# Altium footprint library HGH.PcbLib: 336 footprints (part 12 of 21)
Each footprint in its own frame and in the unit in brackets; x right, y up, seen from the top. Pads: shape width x height; smd on the part's side, far side on the other; paste and mask are expansions set on the pad; w line width, h text height; cw(c..) or ccw(c..) is an arc to the next point about the centre after c.
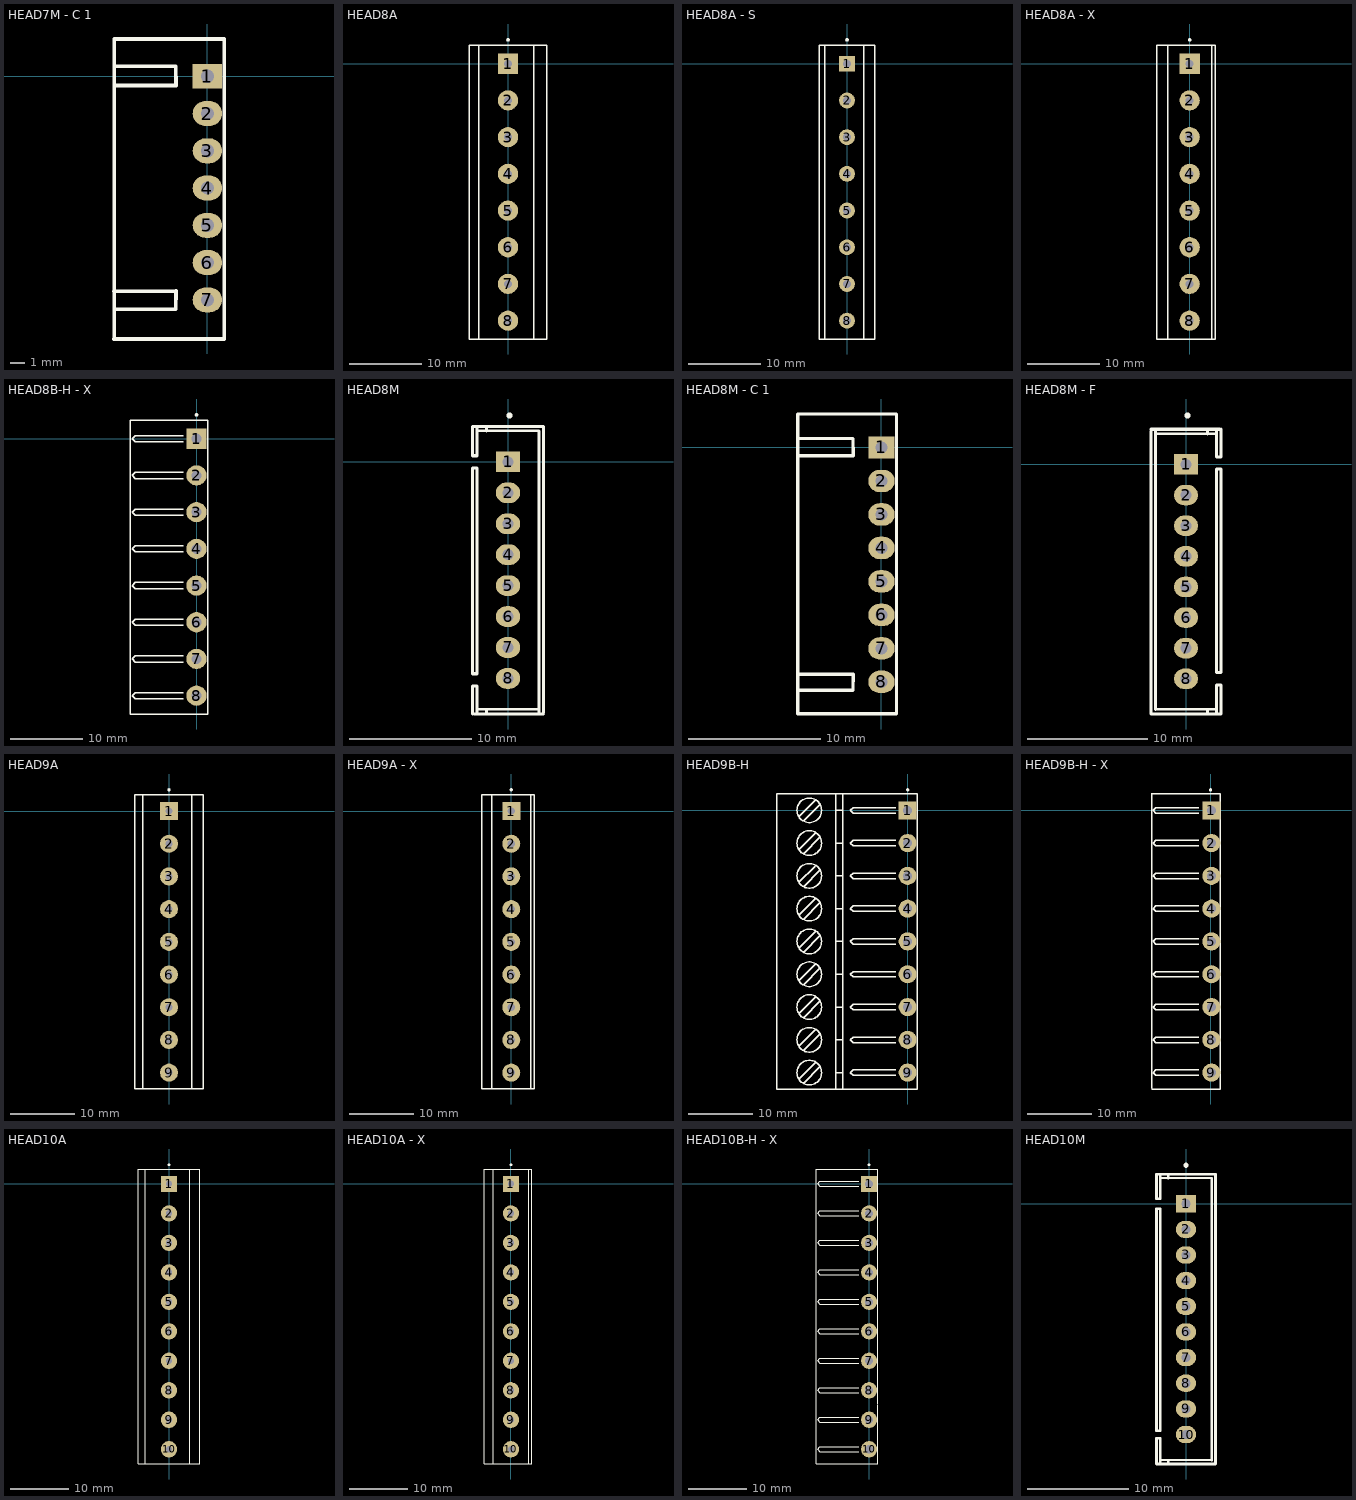
[diagram p11: the footprints below, top view; thin cyan lines are the x and y axes]

## HEAD7M - C 1 [mm]
pads (7):
  rect 2x1.7 hole 0.9: 1(0,0)
  oval 2x1.7 hole 0.9: 2(0,-2.54) 3(0,-5.08) 4(0,-7.62) 5(0,-10.16) 6(0,-12.7) 7(0,-15.24)
Top Overlay:
  lines w0.254: -6.375,-17.907 1.143,-17.907 1.143,2.54 -6.35,2.54 -6.35,-17.78 ; -6.375,-14.656 -2.134,-14.63 -2.159,-15.875 -6.35,-15.875 ; -6.35,-0.635 -2.134,-0.635 -2.159,0.686 -6.35,0.686

## HEAD8A [mm]
pads (8):
  rect 2.8x2.8 hole 1.1: 1(0,0)
  round 2.8 hole 1.1: 2(0,-5.08) 3(0,-10.16) 4(0,-15.24) 5(0,-20.32) 6(0,-25.4) 7(0,-30.48) 8(0,-35.56)
Top Overlay:
  circle w0.25: c0,3.3 r0.125
  lines w0.2: -4.064,-38.1 -4.064,-27.94 -4.064,-17.78 -4.064,-7.62 -4.064,2.54 ; 3.556,-38.1 3.556,-27.94 3.556,-17.78 3.556,-7.62 3.556,2.54 ; -5.334,-38.1 -5.334,-27.94 -5.334,-17.78 -5.334,-7.62 -5.334,2.54 5.334,2.54 5.334,-7.62 5.334,-17.78 5.334,-27.94 5.334,-38.1 -5.334,-38.1

## HEAD8A - S [mm]
pads (8):
  rect 2.2x2.2 hole 1.1: 1(0,0)
  round 2.2 hole 1.1: 2(0,-5.08) 3(0,-10.16) 4(0,-15.24) 5(0,-20.32) 6(0,-25.4) 7(0,-30.48) 8(0,-35.56)
Top Overlay:
  circle w0.25: c0,3.3 r0.125
  lines w0.2: -3.048,-38.1 -3.048,-27.94 -3.048,-17.78 -3.048,-7.62 -3.048,2.54 ; 2.286,-38.1 2.286,-27.94 2.286,-17.78 2.286,-7.62 2.286,2.54 ; -3.81,-38.1 -3.81,-27.94 -3.81,-17.78 -3.81,-7.62 -3.81,2.54 3.81,2.54 3.81,-7.62 3.81,-17.78 3.81,-27.94 3.81,-38.1 -3.81,-38.1

## HEAD8A - X [mm]
pads (8):
  rect 2.8x2.8 hole 1.1: 1(0,0)
  round 2.8 hole 1.1: 2(0,-5.08) 3(0,-10.16) 4(0,-15.24) 5(0,-20.32) 6(0,-25.4) 7(0,-30.48) 8(0,-35.56)
Top Overlay:
  circle w0.25: c0,3.3 r0.125
  lines w0.2: -3.048,-38.1 -3.048,2.54 ; 3.048,-38.1 3.048,2.54 ; -4.572,-38.1 -4.572,2.54 3.556,2.54 3.556,-38.1 -4.572,-38.1

## HEAD8B-H - X [mm]
pads (8):
  rect 2.8x2.8 hole 1.4: 1(0,0)
  round 2.8 hole 1.4: 2(0,-5.08) 3(0,-10.16) 4(0,-15.24) 5(0,-20.32) 6(0,-25.4) 7(0,-30.48) 8(0,-35.56)
Top Overlay:
  circle w0.25: c0,3.3 r0.125
  lines w0.2: -1.82,-35.983 -8.467,-35.983 -8.89,-35.56 -8.467,-35.137 -1.82,-35.137 ; -1.82,-30.903 -8.467,-30.903 -8.89,-30.48 -8.467,-30.057 -1.82,-30.057 ; -1.82,-25.823 -8.467,-25.823 -8.89,-25.4 -8.467,-24.977 -1.82,-24.977 ; -1.82,-20.743 -8.467,-20.743 -8.89,-20.32 -8.467,-19.897 -1.82,-19.897 ; -1.82,-15.663 -8.467,-15.663 -8.89,-15.24 -8.467,-14.817 -1.82,-14.817 ; -1.82,-10.583 -8.467,-10.583 -8.89,-10.16 -8.467,-9.737 -1.82,-9.737 ; -1.82,-5.503 -8.467,-5.503 -8.89,-5.08 -8.467,-4.657 -1.82,-4.657 ; -1.82,-0.423 -8.467,-0.423 -8.89,0 -8.467,0.423 -1.82,0.423 ; -9.144,-38.1 -9.144,-27.94 -9.144,-17.78 -9.144,-7.62 -9.144,2.54 1.524,2.54 1.524,-27.94 1.524,-38.1 -9.144,-38.1

## HEAD8M [mm]
pads (8):
  rect 2x1.7 hole 0.9: 1(0,0)
  oval 2x1.7 hole 0.9: 2(0,-2.54) 3(0,-5.08) 4(0,-7.62) 5(0,-10.16) 6(0,-12.7) 7(0,-15.24) 8(0,-17.78)
Top Overlay:
  circle w0.25: c0.127,3.808 r0.125
  lines w0.2: -2.54,-20.32 2.413,-20.32 ; -2.54,2.54 2.54,2.54
  lines w0.254: -2.921,-20.701 -2.921,-18.415 -2.54,-18.415 -2.54,-20.574 ; -2.794,-20.701 2.921,-20.701 ; -2.54,2.794 -2.54,2.54 -2.54,0.508 -2.921,0.508 -2.921,2.921 2.921,2.921 2.921,-20.574 ; -1.778,-20.701 -1.778,-20.32 ; -1.778,2.54 -1.778,2.921 ; 2.54,-20.701 2.54,2.54 ; -2.921,-17.399 -2.667,-17.399 -2.54,-17.399 -2.54,-0.508 -2.921,-0.508 -2.921,-17.399

## HEAD8M - C 1 [mm]
pads (8):
  rect 2x1.7 hole 0.9: 1(0,0)
  oval 2x1.7 hole 0.9: 2(0,-2.54) 3(0,-5.08) 4(0,-7.62) 5(0,-10.16) 6(0,-12.7) 7(0,-15.24) 8(0,-17.78)
Top Overlay:
  lines w0.254: -6.375,-20.193 1.143,-20.193 1.143,2.54 -6.35,2.54 -6.35,-20.218 ; -6.375,-17.196 -2.134,-17.196 -2.159,-18.415 -6.35,-18.415 ; -6.35,-0.635 -2.134,-0.635 -2.159,0.686 -6.35,0.686

## HEAD8M - F [mm]
pads (8):
  rect 2x1.7 hole 0.9: 1(0,0)
  oval 2x1.7 hole 0.9: 2(0,-2.54) 3(0,-5.08) 4(0,-7.62) 5(0,-10.16) 7(0,-15.24) 8(0,-17.78)
  oval 2x1.7 hole 0.8: 6(0,-12.7)
Top Overlay:
  circle w0.25: c0.127,4.062 r0.125
  lines w0.2: -2.54,-20.32 2.54,-20.32 ; -2.413,2.54 2.54,2.54
  lines w0.254: -2.921,2.794 -2.921,-20.701 2.921,-20.701 2.921,-18.288 2.54,-18.288 2.54,-20.32 2.54,-20.574 ; -2.921,2.921 2.794,2.921 ; -2.54,-20.32 -2.54,2.921 ; 1.778,-20.701 1.778,-20.32 ; 1.778,2.54 1.778,2.921 ; 2.54,2.794 2.54,0.635 2.921,0.635 2.921,2.921 ; 2.54,-17.272 2.921,-17.272 2.921,-0.381 2.667,-0.381 2.54,-0.381 2.54,-17.272

## HEAD9A [mm]
pads (9):
  rect 2.8x2.8 hole 1.1: 1(0,0)
  round 2.8 hole 1.1: 2(0,-5.08) 3(0,-10.16) 4(0,-15.24) 5(0,-20.32) 6(0,-25.4) 7(0,-30.48) 8(0,-35.56) 9(0,-40.64)
Top Overlay:
  circle w0.25: c0,3.3 r0.125
  lines w0.2: -4.064,-43.18 -4.064,-33.02 -4.064,-22.86 -4.064,-7.62 -4.064,2.54 ; 3.556,-43.18 3.556,-33.02 3.556,-22.86 3.556,-7.62 3.556,2.54 ; -5.334,-43.18 -5.334,-33.02 -5.334,-22.86 -5.334,-7.62 -5.334,2.54 5.334,2.54 5.334,-7.62 5.334,-22.86 5.334,-33.02 5.334,-43.18 -5.334,-43.18

## HEAD9A - X [mm]
pads (9):
  rect 2.8x2.8 hole 1.1: 1(0,0)
  round 2.8 hole 1.1: 2(0,-5.08) 3(0,-10.16) 4(0,-15.24) 5(0,-20.32) 6(0,-25.4) 7(0,-30.48) 8(0,-35.56) 9(0,-40.64)
Top Overlay:
  circle w0.25: c0,3.3 r0.125
  lines w0.2: -3.048,-43.18 -3.048,2.54 ; 3.048,-43.18 3.048,2.54 ; -4.572,-43.18 -4.572,2.54 3.556,2.54 3.556,-43.18 -4.572,-43.18

## HEAD9B-H [mm]
pads (9):
  rect 2.8x2.8 hole 1.4: 1(0,0)
  round 2.8 hole 1.4: 2(0,-5.08) 3(0,-10.16) 4(0,-15.24) 5(0,-20.32) 6(0,-25.4) 7(0,-30.48) 8(0,-35.56) 9(0,-40.64)
Top Overlay:
  circle w0.2: c-15.24,-40.64 r1.905
  circle w0.2: c-15.24,-35.56 r1.905
  circle w0.2: c-15.24,-30.48 r1.905
  circle w0.2: c-15.24,-25.4 r1.905
  circle w0.2: c-15.24,-20.32 r1.905
  circle w0.2: c-15.24,-15.24 r1.905
  circle w0.2: c-15.24,-10.16 r1.905
  circle w0.2: c-15.24,-5.08 r1.905
  circle w0.2: c-15.24,0 r1.905
  circle w0.25: c0,3.173 r0.125
  lines w0.2: -16.891,-41.656 -14.351,-39.116 ; -16.891,-36.576 -14.351,-34.036 ; -16.891,-31.496 -14.351,-28.956 ; -16.891,-26.416 -14.351,-23.876 ; -16.891,-21.336 -14.351,-18.796 ; -16.891,-16.256 -14.351,-13.716 ; -16.891,-11.176 -14.351,-8.636 ; -16.891,-6.096 -14.351,-3.556 ; -16.891,-1.016 -14.351,1.524 ; -16.129,-42.291 -13.589,-39.751 ; -16.129,-37.211 -13.589,-34.671 ; -16.129,-32.131 -13.589,-29.591 ; -16.129,-27.051 -13.589,-24.511 ; -16.129,-21.971 -13.589,-19.431 ; -16.129,-16.891 -13.589,-14.351 ; -16.129,-11.811 -13.589,-9.271 ; -16.129,-6.731 -13.589,-4.191 ; -16.129,-1.651 -13.589,0.889 ; -11.176,-43.18 -11.176,-27.94 -11.176,-12.7 -11.176,2.54 ; -11.176,-40.64 -10.033,-40.64 ; -11.176,-35.56 -10.033,-35.56 ; -11.176,-30.48 -10.033,-30.48 ; -11.176,-25.4 -10.033,-25.4 ; -11.176,-20.32 -10.033,-20.32 ; -11.176,-15.24 -10.033,-15.24 ; -11.176,-10.16 -10.033,-10.16 ; -11.176,-5.08 -10.033,-5.08 ; -11.176,0 -10.033,0 ; -10.033,-43.18 -10.033,-27.94 -10.033,-12.7 -10.033,2.54 ; -1.82,-41.063 -8.467,-41.063 -8.89,-40.64 -8.467,-40.217 -1.82,-40.217 ; -1.82,-35.983 -8.467,-35.983 -8.89,-35.56 -8.467,-35.137 -1.82,-35.137 ; -1.82,-30.903 -8.467,-30.903 -8.89,-30.48 -8.467,-30.057 -1.82,-30.057 ; -1.82,-25.823 -8.467,-25.823 -8.89,-25.4 -8.467,-24.977 -1.82,-24.977 ; -1.82,-20.743 -8.467,-20.743 -8.89,-20.32 -8.467,-19.897 -1.82,-19.897 ; -1.82,-15.663 -8.467,-15.663 -8.89,-15.24 -8.467,-14.817 -1.82,-14.817 ; -1.82,-10.583 -8.467,-10.583 -8.89,-10.16 -8.467,-9.737 -1.82,-9.737 ; -1.82,-5.503 -8.467,-5.503 -8.89,-5.08 -8.467,-4.657 -1.82,-4.657 ; -1.82,-0.423 -8.467,-0.423 -8.89,0 -8.467,0.423 -1.82,0.423 ; -20.32,-43.18 1.524,-43.18 1.524,-27.94 1.524,2.54 -20.32,2.54 -20.32,-12.7 -20.32,-27.94 -20.32,-43.18

## HEAD9B-H - X [mm]
pads (9):
  rect 2.8x2.8 hole 1.4: 1(0.127,0)
  round 2.8 hole 1.4: 2(0.127,-5.08) 3(0.127,-10.16) 4(0.127,-15.24) 5(0.127,-20.32) 6(0.127,-25.4) 7(0.127,-30.48) 8(0.127,-35.56) 9(0.127,-40.64)
Top Overlay:
  circle w0.25: c0,3.173 r0.125
  lines w0.2: -9.144,-43.18 1.524,-43.18 1.524,-27.94 1.524,2.54 -9.144,2.54 ; -9.144,-43.053 -9.144,2.667 ; -1.82,-41.063 -8.467,-41.063 -8.89,-40.64 -8.467,-40.217 -1.82,-40.217 ; -1.82,-35.983 -8.467,-35.983 -8.89,-35.56 -8.467,-35.137 -1.82,-35.137 ; -1.82,-30.903 -8.467,-30.903 -8.89,-30.48 -8.467,-30.057 -1.82,-30.057 ; -1.82,-25.823 -8.467,-25.823 -8.89,-25.4 -8.467,-24.977 -1.82,-24.977 ; -1.82,-20.743 -8.467,-20.743 -8.89,-20.32 -8.467,-19.897 -1.82,-19.897 ; -1.82,-15.663 -8.467,-15.663 -8.89,-15.24 -8.467,-14.817 -1.82,-14.817 ; -1.82,-10.583 -8.467,-10.583 -8.89,-10.16 -8.467,-9.737 -1.82,-9.737 ; -1.82,-5.503 -8.467,-5.503 -8.89,-5.08 -8.467,-4.657 -1.82,-4.657 ; -1.82,-0.423 -8.467,-0.423 -8.89,0 -8.467,0.423 -1.82,0.423

## HEAD10A [mm]
pads (10):
  rect 2.8x2.8 hole 1.1: 1(0,0)
  round 2.8 hole 1.1: 2(0,-5.08) 3(0,-10.16) 4(0,-15.24) 5(0,-20.32) 6(0,-25.4) 7(0,-30.48) 8(0,-35.56) 9(0,-40.64) 10(0,-45.72)
Top Overlay:
  circle w0.25: c0,3.3 r0.125
  lines w0.2: -4.064,-48.26 -4.064,-38.1 -4.064,-27.94 -4.064,-17.78 -4.064,-7.62 -4.064,2.54 ; 3.556,-48.26 3.556,-38.1 3.556,-27.94 3.556,-17.78 3.556,-7.62 3.556,2.54 ; -5.334,-48.26 5.334,-48.26 5.334,-38.1 5.334,-27.94 5.334,-17.78 5.334,-7.62 5.334,2.54 -5.334,2.54 -5.334,-7.62 -5.334,-17.78 -5.334,-27.94 -5.334,-38.1 -5.334,-48.26

## HEAD10A - X [mm]
pads (10):
  rect 2.8x2.8 hole 1.1: 1(0,0)
  round 2.8 hole 1.1: 2(0,-5.08) 3(0,-10.16) 4(0,-15.24) 5(0,-20.32) 6(0,-25.4) 7(0,-30.48) 8(0,-35.56) 9(0,-40.64) 10(0,-45.72)
Top Overlay:
  circle w0.25: c0,3.3 r0.125
  lines w0.2: -3.048,-48.26 -3.048,2.54 ; 3.048,-48.26 3.048,2.54 ; -4.572,-48.26 -4.572,2.54 3.556,2.54 3.556,-48.26 -4.572,-48.26

## HEAD10B-H - X [mm]
pads (10):
  rect 2.8x2.8 hole 1.4: 1(0,0)
  round 2.8 hole 1.4: 2(0,-5.08) 3(0,-10.16) 4(0,-15.24) 5(0,-20.32) 6(0,-25.4) 7(0,-30.48) 8(0,-35.56) 9(0,-40.64) 10(0,-45.72)
Top Overlay:
  circle w0.25: c0,3.3 r0.125
  lines w0.2: -1.82,-46.143 -8.467,-46.143 -8.89,-45.72 -8.467,-45.297 -1.82,-45.297 ; -1.82,-41.063 -8.467,-41.063 -8.89,-40.64 -8.467,-40.217 -1.82,-40.217 ; -1.82,-35.983 -8.467,-35.983 -8.89,-35.56 -8.467,-35.137 -1.82,-35.137 ; -1.82,-30.903 -8.467,-30.903 -8.89,-30.48 -8.467,-30.057 -1.82,-30.057 ; -1.82,-25.823 -8.467,-25.823 -8.89,-25.4 -8.467,-24.977 -1.82,-24.977 ; -1.82,-20.743 -8.467,-20.743 -8.89,-20.32 -8.467,-19.897 -1.82,-19.897 ; -1.82,-15.663 -8.467,-15.663 -8.89,-15.24 -8.467,-14.817 -1.82,-14.817 ; -1.82,-10.583 -8.467,-10.583 -8.89,-10.16 -8.467,-9.737 -1.82,-9.737 ; -1.82,-5.503 -8.467,-5.503 -8.89,-5.08 -8.467,-4.657 -1.82,-4.657 ; -1.82,-0.423 -8.467,-0.423 -8.89,0 -8.467,0.423 -1.82,0.423 ; 1.524,-38.1 1.524,-48.26 -9.144,-48.26 -9.144,-38.1 -9.144,-27.94 -9.144,-17.78 -9.144,-7.62 -9.144,2.54 1.524,2.54 1.524,-37.973

## HEAD10M [mm]
pads (10):
  rect 2x1.7 hole 0.9: 1(0,0)
  oval 2x1.7 hole 0.9: 2(0,-2.54) 3(0,-5.08) 4(0,-7.62) 5(0,-10.16) 6(0,-12.7) 7(0,-15.24) 8(0,-17.78) 9(0,-20.32) 10(0,-22.86)
Top Overlay:
  circle w0.25: c0,3.808 r0.125
  lines w0.2: -2.54,-25.4 2.54,-25.4 ; -2.54,2.54 2.54,2.54
  lines w0.254: -2.921,-22.479 -2.54,-22.479 -2.54,-0.508 -2.921,-0.508 -2.921,-22.352 ; -2.54,-25.654 -2.54,-25.4 -2.54,-23.241 -2.921,-23.241 -2.921,-25.781 2.921,-25.781 2.921,2.921 -2.921,2.921 -2.921,0.508 -2.54,0.508 -2.54,2.54 -2.54,2.794 ; -1.778,-25.781 -1.778,-25.4 ; -1.778,2.54 -1.778,2.794 ; 2.54,-25.4 2.54,2.54